# Altium footprint library PD_BQ_Ref_Design_PCB.PcbLib: 40 footprints (part 2 of 3)
Each footprint in its own frame and in the unit in brackets; x right, y up, seen from the top. Pads: shape width x height; smd on the part's side, far side on the other; paste and mask are expansions set on the pad; w line width, h text height; cw(c..) or ccw(c..) is an arc to the next point about the centre after c.
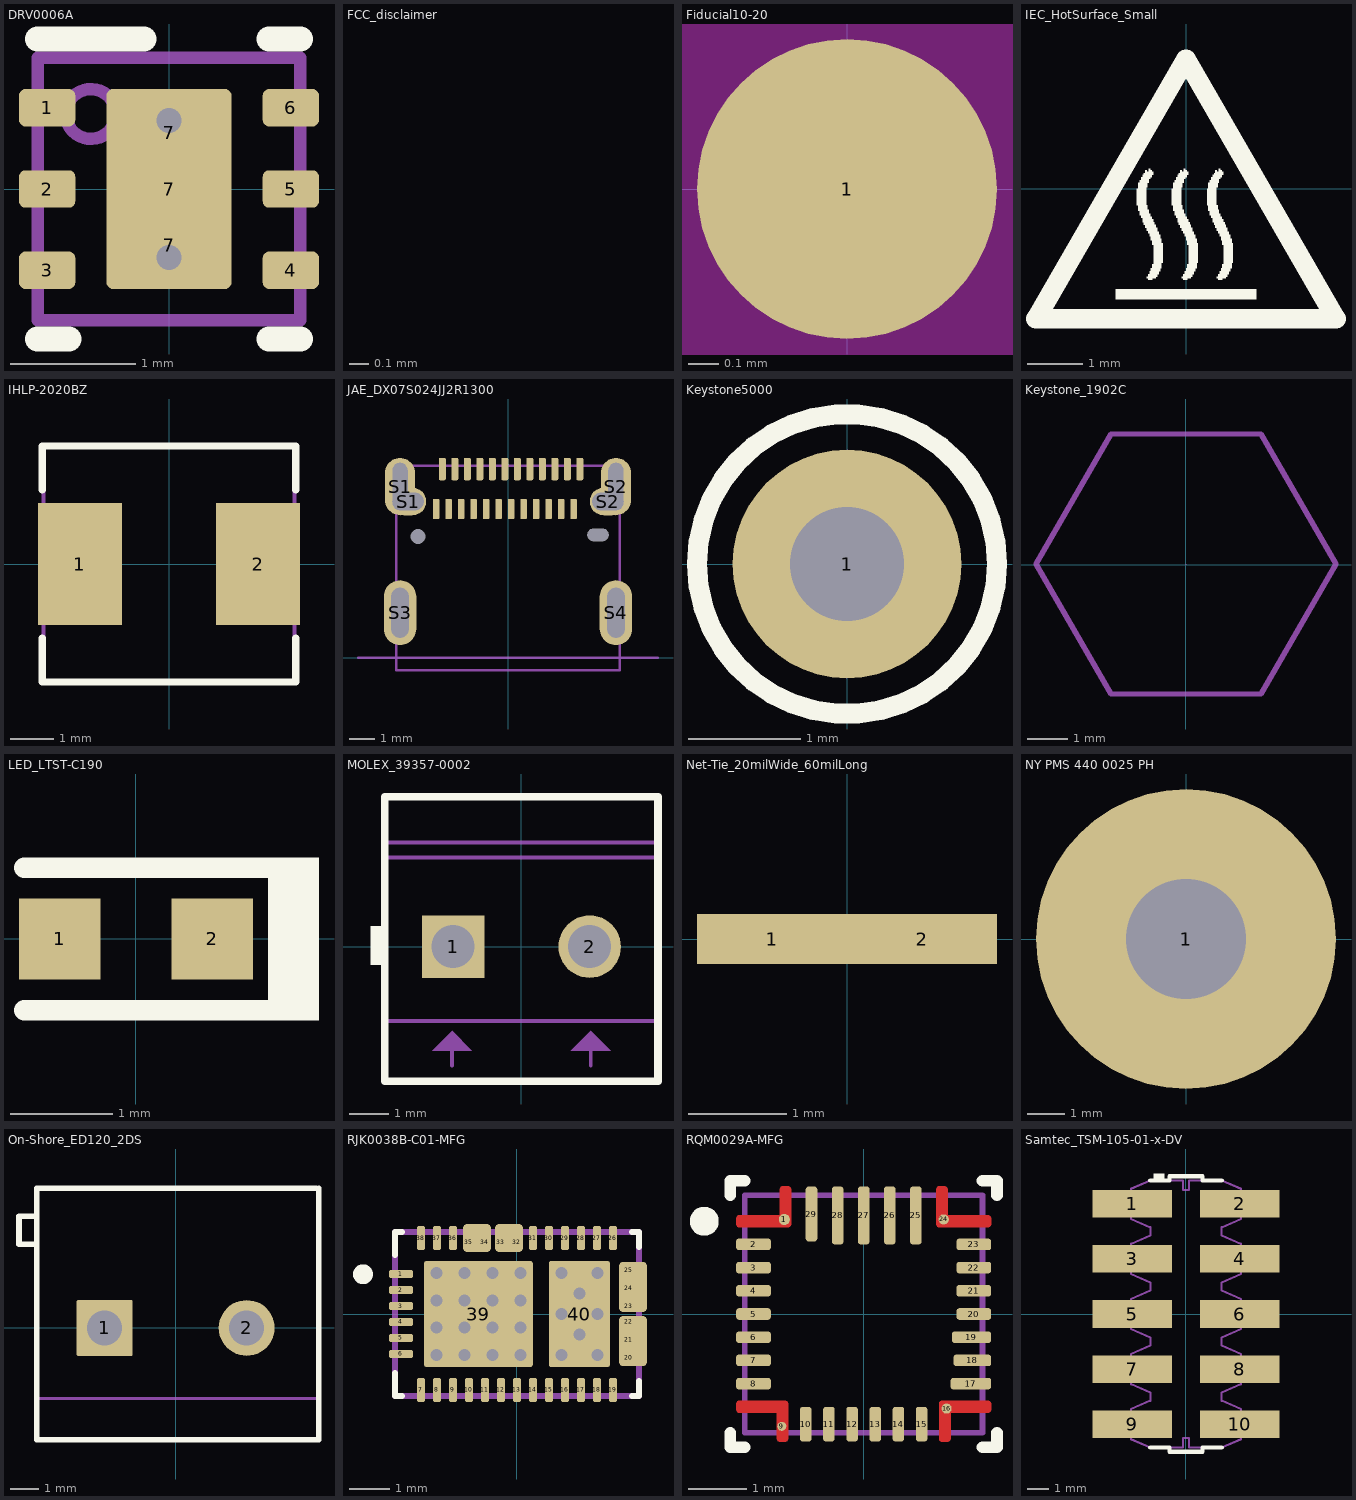
[diagram p1: the footprints below, top view; thin cyan lines are the x and y axes]

## DRV0006A [mm]
pads (9):
  rrect33% 0.45x0.3 smd: 1(-0.975,0.65) 2(-0.975,0) 3(-0.975,-0.65) 4(0.975,-0.65) 5(0.975,0) 6(0.975,0.65)
  rrect50% 1x0.7 on Top Paste: 7(0,-0.45) 7(0,0.45)
  rrect10% 1x1.6 smd paste-0.5: 7(0,0)
via 0,0.55 diameter 0.5 hole 0.2
via 0,-0.55 diameter 0.5 hole 0.2
Top Overlay:
  lines w0.2: -1.05,-1.2 -0.8,-1.2 ; -1.05,1.2 -0.2,1.2 ; 0.8,-1.2 1.05,-1.2 ; 0.8,1.2 1.05,1.2
Mechanical 5:
  circle w0.1: c-0.625,0.6 r0.2
  lines w0.1: -1.05,-1.05 1.05,-1.05 1.05,1.05 -1.05,1.05 -1.05,-1.05
  text ".Designator" at -0.9,-0.5 h0.51
3D body: height 0.8, standoff 0, extent -1.05,-1.05 1.05,1.05
3D body: height 0.81, standoff 0.5, extent -0.824,0.401 -0.426,0.799

## FCC_disclaimer [mm]
Top Overlay:
  text "For evaluation only; not FCC approved for resale." at -99.225,-11.1 h1.52

## Fiducial10-20 [mm]
pads (1):
  round 1 smd mask+0.5: 1(0,0)
Top Layer keep-out:
  circle w1.178: c0,0 r0.5

## IEC_HotSurface_Small [mm]
Top Overlay:
  drawing of 10 lines, arcs and shapes, not listed

## IHLP-2020BZ [mm]
pads (2):
  rect 1.915x2.79 smd: 1(-2.037,0) 2(2.037,0)
Top Overlay:
  lines w0.17: -2.9,-1.7 -2.9,-2.7 2.9,-2.7 2.9,-1.7 ; -2.9,1.7 -2.9,2.7 2.9,2.7 2.9,1.7
Mechanical 5:
  lines w0.1: -2.872,-2.717 2.872,-2.717 2.872,2.717 -2.872,2.717 -2.872,-2.717
  text ".Designator" at -1.8,-0.5 h1.02
3D body: height 2, standoff 0, extent -2.871,-2.716 2.871,2.716

## JAE_DX07S024JJ2R1300 [mm]
pads (32):
  rrect37% 0.27x0.9 smd: A1(-2.625,7.55) A2(-2.125,7.55) A3(-1.625,7.55) A4(-1.125,7.55) A5(-0.625,7.55) A6(-0.125,7.55) A7(0.375,7.55) A8(0.875,7.55) A9(1.375,7.55) A10(1.875,7.55) A11(2.375,7.55) A12(2.875,7.55)
  round 0.3 hole 0.6 unplated: ALIGN1(-3.6,4.85)
  rrect100% 0.55x0.3 hole 0.5 slot 0.85 at 0 deg unplated: ALIGN2(3.6,4.915)
  rrect37% 0.27x0.8 smd: B1(2.625,5.95) B2(2.125,5.95) B3(1.625,5.95) B4(1.125,5.95) B5(0.625,5.95) B6(0.125,5.95) B7(-0.375,5.95) B8(-0.875,5.95) B9(-1.375,5.95) B10(-1.875,5.95) B11(-2.375,5.95) B12(-2.875,5.95)
  rrect100% 1.2x2.3 hole 0.6 slot 1.9 at 90 deg: S1(-4.32,6.85) S2(4.32,6.85)
  rrect100% 1.45x1.1 hole 0.7 slot 1.25 at 0 deg: S1(-3.995,6.25) S2(3.995,6.25)
  rrect100% 1.3x2.6 hole 0.7 slot 2 at 90 deg: S3(-4.32,1.8) S4(4.32,1.8)
Mechanical 1:
  lines w0.1: -6,0 6,0
Mechanical 5:
  lines w0.1: -4.47,-0.5 -4.47,7.67 -3.47,7.67 3.47,7.67 4.47,7.67 4.47,-0.5 3.47,-0.5 -3.47,-0.5 -4.47,-0.5
  text ".Designator" at -1.8,4.336 h1.52
3D body "DX07S024JJ2R1300.stp": height 3.14, standoff -0.6, extent -4.47,-0.5 4.47,7.67

## Keystone5000 [mil]
pads (1):
  round 80 hole 40: 1(0,0)
Top Overlay:
  circle w7: c0,0 r52.5
Mechanical 5:
  circle w3.94: c0,0 r52.5
  text ".Designator" at -92.97,-15 h18
3D body "Keystone_5000.stp": height 181.97, standoff -118.11, extent -49,-49 49.04,49.24

## Keystone_1902C [mil]
pads (1):
  round 1 on Mech3: 0(0,0)
Mechanical 5:
  lines w5: -145.29,0.49 -72.56,-125.49 72.92,-125.49 145.65,0.49 72.92,126.47 -72.56,126.47 -145.29,0.49
  text ".Designator" at -60,-20 h40
3D body "Keystone_1902C.stp": height 501, standoff 1, extent -144.95,-125.98 146,125.98

## LED_LTST-C190 [mm]
pads (2):
  rect 0.8x0.8 smd: 1(-0.75,0) 2(0.75,0)
Top Overlay:
  region: 1.8,0.8 1.3,0.8 1.3,-0.8 1.8,-0.8
  lines w0.2: -1.1,-0.7 1.4,-0.7 ; -1.1,0.7 1.4,0.7
Mechanical 5:
  region: 1.8,0.75 1.3,0.75 1.3,-0.75 1.8,-0.75
  lines w0.1: -1.1,-0.7 1.4,-0.7 ; -1.1,0.7 1.4,0.7
  text ".Designator" at -1.2,-0.3 h0.64
3D body "Lite-On_LTST_C190.stp": height 0.9, standoff 0, extent -0.85,-0.45 0.85,0.45

## MOLEX_39357-0002 [mm]
pads (2):
  rect 1.6x1.6 hole 1.1: 1(-1.75,0)
  round 1.6 hole 1.1: 2(1.75,0)
Top Overlay:
  region: -3.864,0.523 -3.864,-0.477 -3.509,-0.477 -3.509,0.523
  lines w0.2: -3.5,-3.45 -3.5,3.84 3.5,3.84 3.5,-3.45 -3.5,-3.45
Mechanical 5:
  region: -2.286,-2.667 -1.27,-2.667 -1.778,-2.159
  region: 1.27,-2.667 2.286,-2.667 1.778,-2.159
  lines w0.1: -3.5,-1.905 3.5,-1.905 ; -3.5,2.286 3.5,2.286 ; -3.5,2.667 3.5,2.667 ; -1.778,-3.048 -1.778,-2.667 ; 1.778,-3.048 1.778,-2.667 ; -3.5,-3.45 3.5,-3.45 3.5,3.84 -3.5,3.84 -3.5,-3.45
  text ".Designator" at -1.905,-0.508 h1.02
3D body "393570002.stp": height 8.51, standoff -3.5, extent -3.55,-3.45 3.562,3.84

## Net-Tie_20milWide_60milLong [mil]
pads (2):
  rect 60x20 smd: 1(-30,0) 2(30,0)

## NY PMS 440 0025 PH [mm]
pads (1):
  round 8 hole 3.2: 1(0,0)
Mechanical 5:
  circle w0.127: c0,0 r3.789
  text ".Designator" at -1.524,-0.508 h1.02
3D body "B_F_NY PMS 440 0025 PH.stp": height 2.69, standoff -8.74, extent -3.302,-3.3 3.296,3.3

## On-Shore_ED120_2DS [mm]
pads (2):
  rrect5% 2x2 hole 1.25: 1(-2.54,0)
  round 2 hole 1.25: 2(2.54,0)
Top Overlay:
  lines w0.2: -4.96,-4 -4.96,5 5.015,5 ; -4.96,3 -5.6,3 -5.6,4 -4.96,4 ; -4.885,-4 5.115,-4 5.115,5
Mechanical 5:
  lines w0.1: -4.96,-4 -4.96,5 5.115,5 5.115,-4 -4.885,-4 ; -4.96,3 -5.6,3 -5.6,4 -4.96,4 ; -4.875,-2.525 5.125,-2.525
  text ".Designator" at -2.75,-0.4 h1.52
3D body "ED1202DS.stp": height 13, standoff -4, extent -5.78,-4 5.08,5

## RJK0038B-C01-MFG [mm]
pads (44):
  rrect50% 0.6x0.2 smd paste+0 mask-1000: 1(-2.9,1) 2(-2.9,0.6) 3(-2.9,0.2) 4(-2.9,-0.2) 5(-2.9,-0.6) 6(-2.9,-1)
  rrect50% 0.2x0.6 smd paste+0 mask-1000: 7(-2.4,-1.9) 8(-2,-1.9) 9(-1.6,-1.9) 10(-1.2,-1.9) 11(-0.8,-1.9) 12(-0.4,-1.9) 13(0,-1.9) 14(0.4,-1.9) 15(0.8,-1.9) 16(1.2,-1.9) 17(1.6,-1.9) 18(2,-1.9) 19(2.4,-1.9) 26(2.4,1.9) 27(2,1.9) 28(1.6,1.9) 29(1.2,1.9) 30(0.8,1.9) 31(0.4,1.9) 36(-1.6,1.9) 37(-2,1.9) 38(-2.4,1.9)
  rrect50% 0.4x0.2 smd paste-1000 mask-1000: 20(2.8,-1.1) 21(2.8,-0.65) 22(2.8,-0.2) 23(2.8,0.2) 24(2.8,0.65) 25(2.8,1.1)
  rrect50% 0.2x0.4 smd paste-1000 mask-1000: 32(0,1.8) 33(-0.4,1.8) 34(-0.8,1.8) 35(-1.2,1.8)
  rrect4% 2.72x2.65 smd paste-1000 mask-1000: 39(-0.965,0)
  rrect7% 1.53x2.65 smd paste-1000 mask-1000: 40(1.56,0)
  rrect29% 0.7x0.7 smd paste-1000 mask-1000: ""(-1,1.9) ""(-0.2,1.9)
  rrect29% 0.7x1.253 smd paste-1000 mask-1000: ""(2.9,-0.677) ""(2.9,0.677)
via -2.015,1.02 diameter 0.6 hole 0.3
via -1.315,1.02 diameter 0.6 hole 0.3
via -0.615,1.02 diameter 0.6 hole 0.3
via 0.085,1.02 diameter 0.6 hole 0.3
via -2.015,0.34 diameter 0.6 hole 0.3
via -1.315,0.34 diameter 0.6 hole 0.3
via -0.615,0.34 diameter 0.6 hole 0.3
via 0.085,0.34 diameter 0.6 hole 0.3
via -2.015,-0.34 diameter 0.6 hole 0.3
via -1.315,-0.34 diameter 0.6 hole 0.3
via -0.615,-0.34 diameter 0.6 hole 0.3
via 0.085,-0.34 diameter 0.6 hole 0.3
via -2.015,-1.02 diameter 0.6 hole 0.3
via -1.315,-1.02 diameter 0.6 hole 0.3
via -0.615,-1.02 diameter 0.6 hole 0.3
via 0.085,-1.02 diameter 0.6 hole 0.3
via 1.56,0.51 diameter 0.6 hole 0.3
via 1.56,-0.51 diameter 0.6 hole 0.3
via 2.01,0 diameter 0.6 hole 0.3
via 1.11,0 diameter 0.6 hole 0.3
via 1.11,1.02 diameter 0.6 hole 0.3
via 2.01,1.02 diameter 0.6 hole 0.3
via 1.11,-1.02 diameter 0.6 hole 0.3
via 2.01,-1.02 diameter 0.6 hole 0.3
Top Overlay:
  circle w0.25: c-3.85,0.994 r0.125
  lines w0.15: -3.05,-1.475 -3.05,-2.05 -2.875,-2.05 ; -3.05,1.475 -3.05,2.05 -2.875,2.05 ; 2.875,-2.05 3.05,-2.05 3.05,-1.678 ; 2.875,2.05 3.05,2.05 3.05,1.678
Top Paste:
  drawing of 10 lines, arcs and shapes, not listed
Top Solder:
  drawing of 34 lines, arcs and shapes, not listed
Mechanical 5:
  lines w0.15: -3.05,-2.05 3.05,-2.05 3.05,2.05 -3.05,2.05 -3.05,-2.05
  text ".Designator" at 0.075,0.242 h0.5
3D body "IC_TPS25750DRJK_VQFN32.STEP": height 0.25, standoff 0, extent -3.3,-2.3 3.35,2.35

## RQM0029A-MFG [mm]
pads (29):
  round 0.192 smd: 1(-1.369,1.631)
  rrect50% 0.6x0.2 smd: 2(-1.9,1.2) 3(-1.9,0.8) 4(-1.9,0.4) 5(-1.9,0) 6(-1.9,-0.4) 7(-1.9,-0.8) 8(-1.9,-1.2) 20(1.9,0) 21(1.9,0.4) 22(1.9,0.8) 23(1.9,1.2)
  round 0.158 smd: 9(-1.412,-1.937)
  rrect50% 0.2x0.6 smd: 10(-1,-1.9) 11(-0.6,-1.9) 12(-0.2,-1.9) 13(0.2,-1.9) 14(0.6,-1.9) 15(1,-1.9)
  round 0.175 smd: 16(1.431,-1.631) 24(1.381,1.631)
  rrect50% 0.7x0.2 smd: 17(1.85,-1.2)
  rrect50% 0.65x0.2 smd: 18(1.875,-0.8)
  rrect50% 0.68x0.2 smd: 19(1.86,-0.4)
  rrect50% 0.2x1 smd: 25(0.9,1.7) 26(0.45,1.7) 27(0,1.7) 28(-0.45,1.7)
  rrect50% 0.2x0.95 smd: 29(-0.9,1.725)
Top Layer:
  region: -2.2,1.65 -2.2,1.66 -2.192,1.678 -2.178,1.692 -2.16,1.7 -2.15,1.7 -1.45,1.7 -1.45,2.15 -1.45,2.16 -1.442,2.178 -1.428,2.192 -1.41,2.2 -1.4,2.2 -1.3,2.2 -1.29,2.2 -1.272,2.192 -1.258,2.178 -1.25,2.16 -1.25,2.15 -1.25,1.55 -1.25,1.54 -1.258,1.522 -1.272,1.508 -1.29,1.5 -1.3,1.5 -2.15,1.5 -2.16,1.5 -2.178,1.508 -2.192,1.522 -2.2,1.54 -2.2,1.55
  region: -2.2,-1.65 -2.2,-1.66 -2.192,-1.678 -2.178,-1.692 -2.16,-1.7 -2.15,-1.7 -1.5,-1.7 -1.5,-2.15 -1.5,-2.16 -1.492,-2.178 -1.478,-2.192 -1.46,-2.2 -1.45,-2.2 -1.35,-2.2 -1.34,-2.2 -1.322,-2.192 -1.308,-2.178 -1.3,-2.16 -1.3,-2.15 -1.3,-1.55 -1.3,-1.54 -1.308,-1.522 -1.322,-1.508 -1.34,-1.5 -1.35,-1.5 -2.15,-1.5 -2.16,-1.5 -2.178,-1.508 -2.192,-1.522 -2.2,-1.54 -2.2,-1.55
  region: 2.2,-1.65 2.2,-1.66 2.192,-1.678 2.178,-1.692 2.16,-1.7 2.15,-1.7 1.5,-1.7 1.5,-2.15 1.5,-2.16 1.492,-2.178 1.478,-2.192 1.46,-2.2 1.45,-2.2 1.35,-2.2 1.34,-2.2 1.322,-2.192 1.308,-2.178 1.3,-2.16 1.3,-2.15 1.3,-1.55 1.3,-1.54 1.308,-1.522 1.322,-1.508 1.34,-1.5 1.35,-1.5 2.15,-1.5 2.16,-1.5 2.178,-1.508 2.192,-1.522 2.2,-1.54 2.2,-1.55
  region: 2.2,1.65 2.2,1.66 2.192,1.678 2.178,1.692 2.16,1.7 2.15,1.7 1.45,1.7 1.45,2.15 1.45,2.16 1.442,2.178 1.428,2.192 1.41,2.2 1.4,2.2 1.3,2.2 1.29,2.2 1.272,2.192 1.258,2.178 1.25,2.16 1.25,2.15 1.25,1.55 1.25,1.54 1.258,1.522 1.272,1.508 1.29,1.5 1.3,1.5 2.15,1.5 2.16,1.5 2.178,1.508 2.192,1.522 2.2,1.54 2.2,1.55
Top Overlay:
  circle w0.25: c-2.75,1.6 r0.125
  lines w0.2: -2.3,-2.05 -2.3,-2.3 -2.05,-2.3 ; -2.3,2.05 -2.3,2.3 -2.05,2.3 ; 2.05,-2.3 2.3,-2.3 2.3,-2.05 ; 2.05,2.3 2.3,2.3 2.3,2.05
Mechanical 5:
  lines w0.1: -2.05,-2.05 -2.05,2.05 2.05,2.05 2.05,-2.05 -2.05,-2.05
  text ".Designator" at 0,0 h0.5
3D body "IC_BQ25796RQM_VQFN-HR29.STEP": height 0.25, standoff 0, extent -2.3,-2.3 2.3,2.3

## Samtec_TSM-105-01-x-DV [mm]
pads (10):
  rect 3.68x1.27 smd: 1(-2.475,5.08) 2(2.475,5.08) 3(-2.475,2.54) 4(2.475,2.54) 5(-2.475,0) 6(2.475,0) 7(-2.475,-2.54) 8(2.475,-2.54) 9(-2.475,-5.08) 10(2.475,-5.08)
Top Overlay:
  rectangle: -1.499,6.16 -0.999,6.49
  lines w0.2: -1.651,-6.16 -0.762,-6.16 -0.762,-6.35 0.762,-6.35 0.762,-6.16 1.651,-6.16 ; -1.651,6.16 -0.762,6.16 -0.762,6.35 0.762,6.35 0.762,6.16 1.651,6.16
Mechanical 5:
  lines w0.1: -2.54,-5.397 -3.848,-5.397 -3.848,-4.763 -2.54,-4.763 ; -2.54,-2.857 -3.848,-2.857 -3.848,-2.222 -2.54,-2.222 ; -2.54,-0.317 -3.848,-0.317 -3.848,0.318 -2.54,0.318 ; -2.54,2.223 -3.848,2.223 -3.848,2.858 -2.54,2.858 ; -2.54,4.763 -3.848,4.763 -3.848,5.398 -2.54,5.398 ; -1.651,-4 -2.54,-4.381 -2.54,-5.779 -1.651,-6.159 -0.146,-6.159 -0.146,-5.715 0.146,-5.715 0.146,-6.159 1.651,-6.159 2.54,-5.779 2.54,-4.381 1.651,-4 ; -1.651,-3.619 -2.54,-3.238 -2.54,-1.841 -1.651,-1.46 ; -1.651,-1.079 -2.54,-0.698 -2.54,0.699 -1.651,1.08 ; -1.651,1.461 -2.54,1.842 -2.54,3.239 -1.651,3.62 ; -1.651,4.001 -2.54,4.382 -2.54,5.779 -1.651,6.16 -0.146,6.16 -0.146,5.715 0.146,5.715 0.146,6.16 1.651,6.16 2.54,5.779 2.54,4.382 1.651,4.001 ; -1.638,-4 -1.638,-3.619 ; -1.638,-1.46 -1.638,-1.079 ; -1.638,1.08 -1.638,1.461 ; -1.638,3.62 -1.638,4.001 ; -0.762,-6.159 -0.762,-6.35 0.762,-6.35 0.762,-6.159 ; -0.762,6.16 -0.762,6.35 0.762,6.35 0.762,6.16 ; 1.638,-4 1.638,-3.619 ; 1.638,-1.46 1.638,-1.079 ; 1.638,1.08 1.638,1.461 ; 1.638,3.62 1.638,4.001 ; 1.651,-3.619 2.54,-3.238 2.54,-1.841 1.651,-1.46 ; 1.651,-1.079 2.54,-0.698 2.54,0.699 1.651,1.08 ; 1.651,1.461 2.54,1.842 2.54,3.239 1.651,3.62 ; 2.54,-5.397 3.848,-5.397 3.848,-4.763 2.54,-4.763 ; 2.54,-2.857 3.848,-2.857 3.848,-2.222 2.54,-2.222 ; 2.54,-0.317 3.848,-0.317 3.848,0.318 2.54,0.318 ; 2.54,2.223 3.848,2.223 3.848,2.858 2.54,2.858 ; 2.54,4.763 3.848,4.763 3.848,5.398 2.54,5.398
  text ".Designator" at -1.8,-0.4 h1.52
3D body "TSM-105-01-L-DV.stp": height 9.65, standoff 0, extent -3.848,-6.35 3.848,6.35